# EAGLE library part TS5V330_DBQR (library Halley)
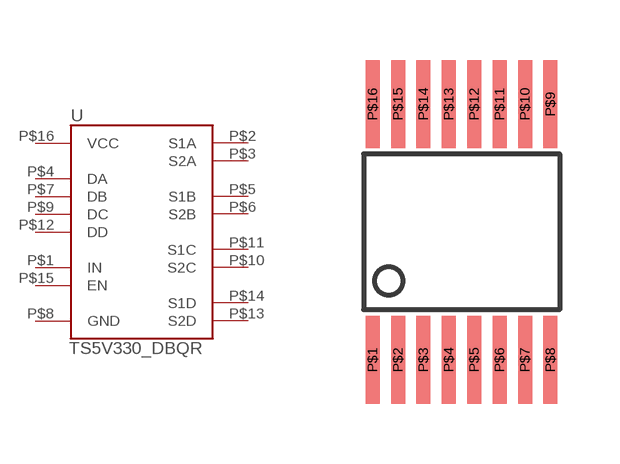
[diagram p2: symbol with the pads of SSOP-16; footprint SSOP-16]

Designator prefix U

## TS5V330_DBQR  [SSOP-16]
P$1  IN
P$2  S1A
P$3  S2A
P$4  DA
P$5  S1B
P$6  S2B
P$7  DB
P$8  GND
P$9  DC
P$10  S2C
P$11  S1C
P$12  DD
P$13  S2D
P$14  S1D
P$15  EN
P$16  VCC

## Footprint SSOP-16 (pad centres in mm)
SSOP-16 (QSOP-16)
smd 0.35 x 2.2: P$1 -2.223,-3.2; P$2 -1.587,-3.2; P$3 -0.953,-3.2; P$4 -0.318,-3.2; P$5 0.318,-3.2; P$6 0.953,-3.2; P$7 1.587,-3.2; P$8 2.223,-3.2; P$9 2.223,3.2; P$10 1.587,3.2; P$11 0.953,3.2; P$12 0.318,3.2; P$13 -0.318,3.2; P$14 -0.953,3.2; P$15 -1.587,3.2; P$16 -2.223,3.2